# EAGLE library part ADL5387 (library analog-devices)
Quadrature Demodulator 50 MHz to 2 GHz
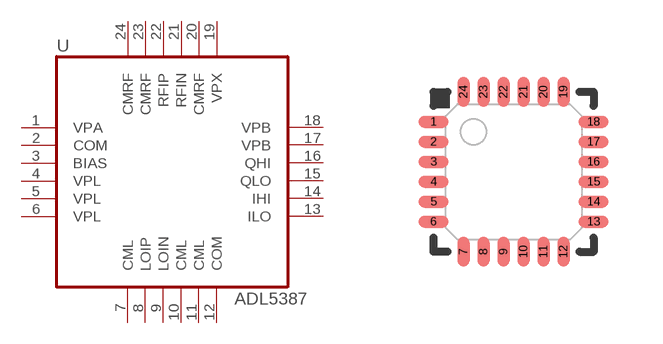
[diagram p65: symbol with the pads of LFCSP24_VQ; footprint LFCSP24_VQ]

Designator prefix U

## ADL5387  [LFCSP24_VQ]
1  VPA  pwr
2  COM  pwr
3  BIAS  pas
4  VPL  pwr
5  VPL  pwr
6  VPL  pwr
7  CML  pwr
8  LOIP  in
9  LOIN  in
10  CML  pwr
11  CML  pwr
12  COM  pwr
13  ILO  out
14  IHI  out
15  QLO  out
16  QHI  out
17  VPB  pwr
18  VPB  pwr
19  VPX  pwr
20  CMRF  pwr
21  RFIN
22  RFIP
23  CMRF  pwr
24  CMRF  pwr

## Footprint LFCSP24_VQ (pad centres in mm)
LFCSP_VQ 24 4 mm × 4 mm Body, Very Thin Quad
smd 0.75 x 0.3: 1 -2,1.25; 2 -2,0.75; 3 -2,0.25; 4 -2,-0.25; 5 -2,-0.75; 6 -2,-1.25; 13 2,-1.25; 14 2,-0.75; 15 2,-0.25; 16 2,0.25; 17 2,0.75; 18 2,1.25
smd 0.3 x 0.75: 7 -1.25,-2; 8 -0.75,-2; 9 -0.25,-2; 10 0.25,-2; 11 0.75,-2; 12 1.25,-2; 19 1.25,2; 20 0.75,2; 21 0.25,2; 22 -0.25,2; 23 -0.75,2; 24 -1.25,2